# EAGLE library part 70246-1004 (library 70246-1004)
Header 2.54mm, dual row, vertical, 10w Molex C-GRID Series, Series Number 70246, 2.54mm Pitch 10 Way 2 Row Shrouded Straight PCB Header, Through Hole Source: Datasheet <http://www.molex.com/pdm_docs/sd/702461004_sd.pdf>
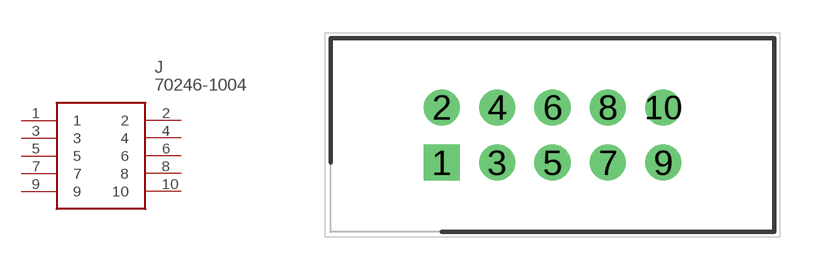
[diagram p0: symbol with the pads of SHDR10W64P254_2X5_2032X889X927; footprint SHDR10W64P254_2X5_2032X889X927]

Designator prefix J

## 70246-1004 (Description: Header 2.54mm, dual row, vertical, 10w Molex C-GRID Series, Series Number 70246, 2.54mm Pitch 10 Way 2 Row Shrouded Straight PCB Header, Through Hole; Height: 9.27mm; Manufacturer_Name: Molex; Manufacturer_Part_Number: 70246-1004; Mouser_Part_Number: 538-70246-1004; Mouser_Price-Stock: https://www.mouser.co.uk/ProductDetail/Molex/70246-1004?qs=R7%2FZKp6KZ2by8%252BhtUWbo%252BQ%3D%3D)  [SHDR10W64P254_2X5_2032X889X927]
1  1
2  2
3  3
4  4
5  5
6  6
7  7
8  8
9  9
10  10

## Footprint SHDR10W64P254_2X5_2032X889X927 (pad centres in mm)
HEADER 2X5
drill 1.1 pad 1.65 square: 1 0,0
drill 1.1 pad 1.65: 2 0,2.54; 3 2.54,0; 4 2.54,2.54; 5 5.08,0; 6 5.08,2.54; 7 7.62,0; 8 7.62,2.54; 9 10.16,0; 10 10.16,2.54